# Altium integrated library tanekonsat_lib.IntLib: 10 symbols
Pins are listed as number, name and electrical type; pins without a type are passive.

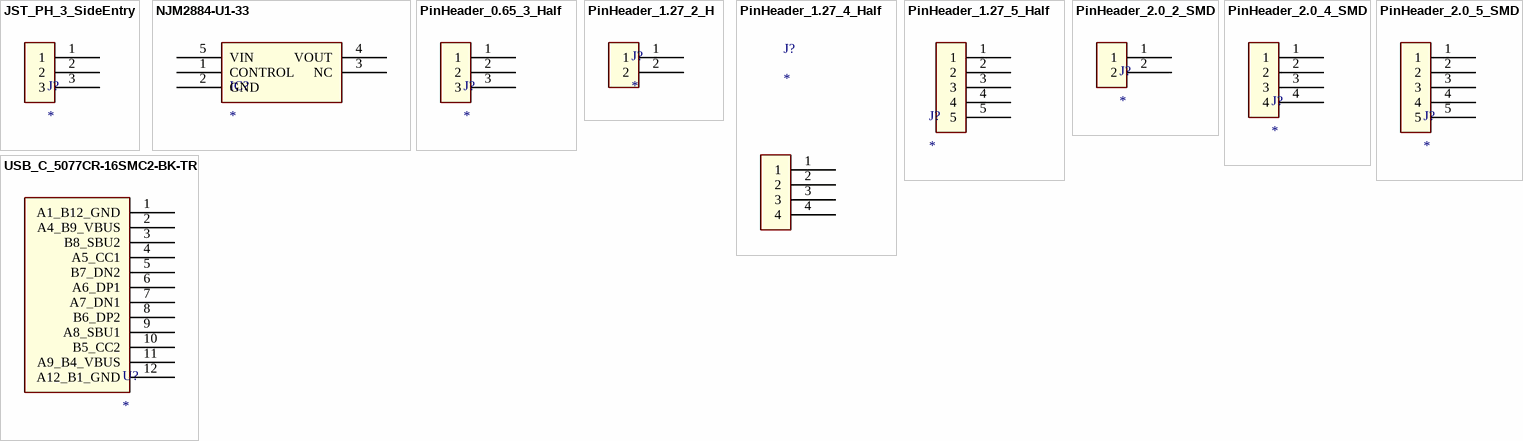
[diagram p0: symbols JST_PH_3_SideEntry to USB_C_5077CR-16SMC2-BK-TR]

## JST_PH_3_SideEntry
designator J?
footprint JST_PH_3_SideEntry
pins: 1, 2, 3

## NJM2884-U1-33
designator IC?
footprint NJM2884-U1-33
pins: 1 CONTROL, 2 GND, 3 NC, 4 VOUT, 5 VIN

## PinHeader_0.65_3_Half
designator J?
footprint PinHeader_0.65_3_Half
pins: 1, 2, 3

## PinHeader_1.27_2_H
designator J?
footprint PinHeader_1.27_2_Half
pins: 1, 2

## PinHeader_1.27_4_Half
designator J?
footprint PinHeader_1.27_4_Half
pins: 1, 2, 3, 4

## PinHeader_1.27_5_Half
designator J?
footprint PinHeader_1.27_5_Half
pins: 1, 2, 3, 4, 5

## PinHeader_2.0_2_SMD
designator J?
footprint PinHeader_2.0_2_SMD
pins: 1, 2

## PinHeader_2.0_4_SMD
designator J?
footprint PinHeader_2.0_4_SMD
pins: 1, 2, 3, 4

## PinHeader_2.0_5_SMD
designator J?
footprint PinHeader_2.0_5_SMD
pins: 1, 2, 3, 4, 5

## USB_C_5077CR-16SMC2-BK-TR
designator U?
footprint USB_C_5077CR-16SMC2-BK-TR
footprint USB_C_5077CR-16SMC2-BK-TR
pins: 1 A1_B12_GND, 2 A4_B9_VBUS, 3 B8_SBU2, 4 A5_CC1, 5 B7_DN2, 6 A6_DP1, 7 A7_DN1, 8 B6_DP2, 9 A8_SBU1, 10 B5_CC2, 11 A9_B4_VBUS, 12 A12_B1_GND